# Altium footprint library LED SMD 3528.PcbLib: 2 footprints
Each footprint in its own frame and in the unit in brackets; x right, y up, seen from the top. Pads: shape width x height; smd on the part's side, far side on the other; paste and mask are expansions set on the pad; w line width, h text height; cw(c..) or ccw(c..) is an arc to the next point about the centre after c.
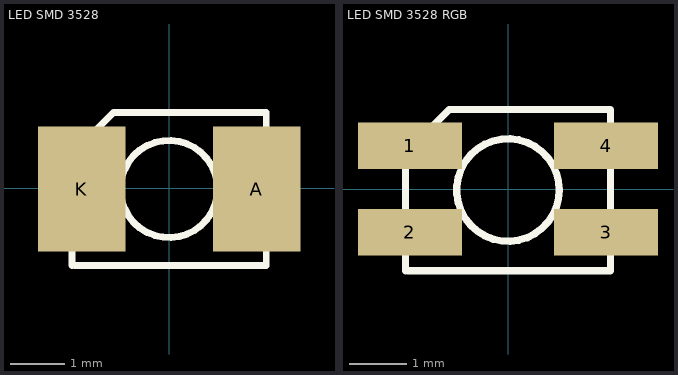
[diagram p0: the footprints below, top view; thin cyan lines are the x and y axes]

## LED SMD 3528 [mil] "LED SMD 3528"
pads (2):
  rect 63x90 smd: A(62.99,-0.72) K(-63.01,-0.72)
Top Overlay:
  circle w5: c-0.01,-0.72 r35
  lines w5: -70.01,-55.72 -70.01,24.28 -40.01,54.28 69.99,54.28 69.99,-55.72 -68.01,-55.72
3D body "LED SMD-3528.stp": height 74.8, standoff 0, extent -61.03,-59.05 61.02,59.06

## LED SMD 3528 RGB [mm] "LED SMD 3528 RGB"
pads (4):
  rect 1.8x0.8 smd: 1(-1.7,0.75) 2(-1.7,-0.75) 3(1.7,-0.75) 4(1.7,0.75)
Top Overlay:
  circle w0.127: c0,-0.018 r0.889
  lines w0.127: -1.778,-1.415 -1.778,0.617 -1.016,1.379 1.778,1.379 1.778,-1.415 -1.727,-1.415
3D body "LED SMD-RGB-3528.stp": height 1.9, standoff 0, extent -1.75,-1.35 1.75,1.35